# Altium footprint library CC1101RGPR.PcbLib: 3 footprints
Each footprint in its own frame and in the unit in brackets; x right, y up, seen from the top. Pads: shape width x height; smd on the part's side, far side on the other; paste and mask are expansions set on the pad; w line width, h text height; cw(c..) or ccw(c..) is an arc to the next point about the centre after c.
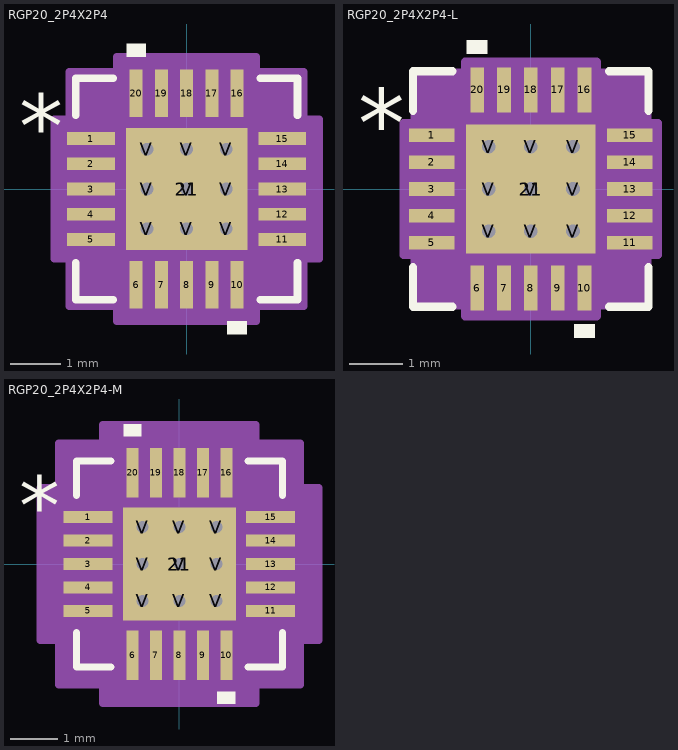
[diagram p0: the footprints below, top view; thin cyan lines are the x and y axes]

## RGP20_2P4X2P4 [mil]
pads (30):
  rect 37.31x10.03 smd paste+0 mask+0: 1(-74.66,39.37) 2(-74.66,19.68) 3(-74.66,0) 4(-74.66,-19.68) 5(-74.66,-39.37) 11(74.66,-39.37) 12(74.66,-19.68) 13(74.66,0) 14(74.66,19.68) 15(74.66,39.37)
  rect 10.03x37.31 smd paste+0 mask+0: 6(-39.37,-74.66) 7(-19.68,-74.66) 8(0,-74.66) 9(19.68,-74.66) 10(39.37,-74.66) 16(39.37,74.66) 17(19.68,74.66) 18(0,74.66) 19(-19.68,74.66) 20(-39.37,74.66)
  rect 95x95 smd paste-47 mask-47: 21(0,0)
  round 20 hole 10 paste-10 mask-10: V(-31,-31) V(-31,0) V(-31,31) V(0,-31) V(0,0) V(0,31) V(31,-31) V(31,0) V(31,31)
Top Overlay:
  region: 46.87,-103.31 31.87,-103.31 31.87,-113.31 46.87,-113.31
  region: -31.87,103.31 -46.87,103.31 -46.87,113.31 -31.87,113.31
  lines w6: -86.5,-57.49 -86.5,-86.5 -57.49,-86.5 ; -86.5,57.49 -86.5,86.5 -57.49,86.5 ; 57.49,-86.5 86.5,-86.5 86.5,-57.49 ; 57.49,86.5 86.5,86.5 86.5,57.49
  text "*" at -130.81,24.21 h50
  text ".Designator" at -137.5,-25 h50
Top Paste:
  drawing of 16 lines, arcs and shapes, not listed
Top Solder:
  region: -50,38.87 -50,50 50,50 50,38.87
  region: -50,7.87 -50,23.13 50,23.13 50,7.87
  region: -50,-23.13 -50,-7.87 50,-7.87 50,-23.13
  region: -50,-50 -50,-38.87 50,-38.87 50,-50
  region: -50,-50 -50,50 -38.87,50 -38.87,-50
  region: -7.87,-50 -7.87,50 -23.13,50 -23.13,-50
  region: 23.13,-50 23.13,50 7.87,50 7.87,-50
  region: 38.87,-50 38.87,50 50,50 50,-50
Mechanical 13:
  lines w1: -81.5,31.5 -31.5,81.5 ; -81.5,-81.5 81.5,-81.5 ; -81.5,-81.5 -81.5,81.5 ; -81.5,-81.5 -81.5,-81.5 ; -81.5,-45.37 -81.5,-33.37 ; -81.5,-45.37 -81.5,-33.37 ; -81.5,-45.37 -81.5,-45.37 ; -81.5,-33.37 -81.5,-33.37 ; -81.5,-25.68 -81.5,-13.69 ; -81.5,-25.68 -81.5,-13.69 ; -81.5,-25.68 -81.5,-25.68 ; -81.5,-13.69 -81.5,-13.69 ; -81.5,-6 -81.5,6 ; -81.5,-6 -81.5,6 ; -81.5,-6 -81.5,-6 ; -81.5,6 -81.5,6 ; -81.5,13.69 -81.5,25.68 ; -81.5,13.69 -81.5,25.68 ; -81.5,13.69 -81.5,13.69 ; -81.5,25.68 -81.5,25.68 ; -81.5,33.37 -81.5,45.37 ; -81.5,33.37 -81.5,45.37 ; -81.5,33.37 -81.5,33.37 ; -81.5,45.37 -81.5,45.37 ; -81.5,81.5 81.5,81.5 ; -81.5,81.5 -81.5,81.5 ; -45.37,-81.5 -33.37,-81.5 ; -45.37,-81.5 -45.37,-81.5 ; -45.37,-81.5 -33.37,-81.5 ; -45.37,81.5 -33.37,81.5 ; -45.37,81.5 -33.37,81.5 ; -45.37,81.5 -45.37,81.5 ; -33.37,-81.5 -33.37,-81.5 ; -33.37,81.5 -33.37,81.5 ; -25.68,-81.5 -13.69,-81.5 ; -25.68,-81.5 -25.68,-81.5 ; -25.68,-81.5 -13.69,-81.5 ; -25.68,81.5 -13.69,81.5 ; -25.68,81.5 -13.69,81.5 ; -25.68,81.5 -25.68,81.5 ; -13.69,-81.5 -13.69,-81.5 ; -13.69,81.5 -13.69,81.5 ; -6,-81.5 6,-81.5 ; -6,-81.5 -6,-81.5 ; -6,-81.5 6,-81.5 ; -6,81.5 6,81.5 ; -6,81.5 6,81.5 ; -6,81.5 -6,81.5 ; 6,-81.5 6,-81.5 ; 6,81.5 6,81.5 ; 13.69,-81.5 25.68,-81.5 ; 13.69,-81.5 13.69,-81.5 ; 13.69,-81.5 25.68,-81.5 ; 13.69,81.5 25.68,81.5 ; 13.69,81.5 25.68,81.5 ; 13.69,81.5 13.69,81.5 ; 25.68,-81.5 25.68,-81.5 ; 25.68,81.5 25.68,81.5 ; 33.37,-81.5 45.37,-81.5 ; 33.37,-81.5 33.37,-81.5 ; 33.37,-81.5 45.37,-81.5 ; 33.37,81.5 45.37,81.5 ; 33.37,81.5 45.37,81.5 ; 33.37,81.5 33.37,81.5 ; 45.37,-81.5 45.37,-81.5 ; 45.37,81.5 45.37,81.5 ; 81.5,-81.5 81.5,-81.5 ; 81.5,-81.5 81.5,81.5 ; 81.5,-45.37 81.5,-33.37 ; 81.5,-45.37 81.5,-45.37 ; 81.5,-45.37 81.5,-33.37 ; 81.5,-33.37 81.5,-33.37 ; 81.5,-25.68 81.5,-13.69 ; 81.5,-25.68 81.5,-25.68 ; 81.5,-25.68 81.5,-13.69 ; 81.5,-13.69 81.5,-13.69 ; 81.5,-6 81.5,6 ; 81.5,-6 81.5,-6 ; 81.5,-6 81.5,6 ; 81.5,6 81.5,6 ; 81.5,13.69 81.5,25.68 ; 81.5,13.69 81.5,13.69 ; 81.5,13.69 81.5,25.68 ; 81.5,25.68 81.5,25.68 ; 81.5,33.37 81.5,45.37 ; 81.5,33.37 81.5,33.37 ; 81.5,33.37 81.5,45.37 ; 81.5,45.37 81.5,45.37 ; 81.5,81.5 81.5,81.5
  text ".Designator" at -137.5,-25 h50
  text "*" at -68.5,24.21 h50
Mechanical 15:
  region: -54.39,-91.5 -91.5,-91.5 -91.5,-54.39 -103.31,-54.39 -103.31,54.39 -91.5,54.39 -91.5,91.5 -54.39,91.5 -54.39,103.31 54.39,103.31 54.39,91.5 91.5,91.5 91.5,54.39 103.31,54.39 103.31,-54.39 91.5,-54.39 91.5,-91.5 54.39,-91.5 54.39,-103.31 -54.39,-103.31
  lines w6: -103.31,-54.39 -91.5,-54.39 -91.5,-91.5 -54.39,-91.5 -54.39,-103.31 54.39,-103.31 54.39,-91.5 91.5,-91.5 91.5,-54.39 103.31,-54.39 103.31,54.39 91.5,54.39 91.5,91.5 54.39,91.5 54.39,103.31 -54.39,103.31 -54.39,91.5 -91.5,91.5 -91.5,54.39 -103.31,54.39 -103.31,-54.39
3D body "RGP20_2P4X2P4.step": height 39.09, standoff 0, extent -81.5,-81.5 81.5,81.5

## RGP20_2P4X2P4-L [mil]
pads (30):
  rect 33.37x10.03 smd paste+0 mask+0: 1(-72.69,39.37) 2(-72.69,19.68) 3(-72.69,0) 4(-72.69,-19.68) 5(-72.69,-39.37) 11(72.69,-39.37) 12(72.69,-19.68) 13(72.69,0) 14(72.69,19.68) 15(72.69,39.37)
  rect 10.03x33.37 smd paste+0 mask+0: 6(-39.37,-72.69) 7(-19.68,-72.69) 8(0,-72.69) 9(19.68,-72.69) 10(39.37,-72.69) 16(39.37,72.69) 17(19.68,72.69) 18(0,72.69) 19(-19.68,72.69) 20(-39.37,72.69)
  rect 95x95 smd paste-47 mask-47: 21(0,0)
  round 20 hole 10 paste-10 mask-10: V(-31,-31) V(-31,0) V(-31,31) V(0,-31) V(0,0) V(0,31) V(31,-31) V(31,0) V(31,31)
Top Overlay:
  region: 46.87,-99.37 31.87,-99.37 31.87,-109.37 46.87,-109.37
  region: -31.87,99.37 -46.87,99.37 -46.87,109.37 -31.87,109.37
  lines w6: -86.5,-57.49 -86.5,-86.5 -57.49,-86.5 ; -86.5,57.49 -86.5,86.5 -57.49,86.5 ; 57.49,-86.5 86.5,-86.5 86.5,-57.49 ; 57.49,86.5 86.5,86.5 86.5,57.49
  text "*" at -126.87,24.21 h50
  text ".Designator" at -137.5,-25 h50
Top Paste:
  drawing of 16 lines, arcs and shapes, not listed
Top Solder:
  region: -50,38.87 -50,50 50,50 50,38.87
  region: -50,7.87 -50,23.13 50,23.13 50,7.87
  region: -50,-23.13 -50,-7.87 50,-7.87 50,-23.13
  region: -50,-50 -50,-38.87 50,-38.87 50,-50
  region: -50,-50 -50,50 -38.87,50 -38.87,-50
  region: -7.87,-50 -7.87,50 -23.13,50 -23.13,-50
  region: 23.13,-50 23.13,50 7.87,50 7.87,-50
  region: 38.87,-50 38.87,50 50,50 50,-50
Mechanical 13:
  lines w1: -81.5,31.5 -31.5,81.5 ; -81.5,-81.5 81.5,-81.5 ; -81.5,-81.5 -81.5,81.5 ; -81.5,-81.5 -81.5,-81.5 ; -81.5,-45.37 -81.5,-33.37 ; -81.5,-45.37 -81.5,-33.37 ; -81.5,-45.37 -81.5,-45.37 ; -81.5,-33.37 -81.5,-33.37 ; -81.5,-25.68 -81.5,-13.69 ; -81.5,-25.68 -81.5,-13.69 ; -81.5,-25.68 -81.5,-25.68 ; -81.5,-13.69 -81.5,-13.69 ; -81.5,-6 -81.5,6 ; -81.5,-6 -81.5,6 ; -81.5,-6 -81.5,-6 ; -81.5,6 -81.5,6 ; -81.5,13.69 -81.5,25.68 ; -81.5,13.69 -81.5,25.68 ; -81.5,13.69 -81.5,13.69 ; -81.5,25.68 -81.5,25.68 ; -81.5,33.37 -81.5,45.37 ; -81.5,33.37 -81.5,45.37 ; -81.5,33.37 -81.5,33.37 ; -81.5,45.37 -81.5,45.37 ; -81.5,81.5 81.5,81.5 ; -81.5,81.5 -81.5,81.5 ; -45.37,-81.5 -33.37,-81.5 ; -45.37,-81.5 -45.37,-81.5 ; -45.37,-81.5 -33.37,-81.5 ; -45.37,81.5 -33.37,81.5 ; -45.37,81.5 -33.37,81.5 ; -45.37,81.5 -45.37,81.5 ; -33.37,-81.5 -33.37,-81.5 ; -33.37,81.5 -33.37,81.5 ; -25.68,-81.5 -13.69,-81.5 ; -25.68,-81.5 -25.68,-81.5 ; -25.68,-81.5 -13.69,-81.5 ; -25.68,81.5 -13.69,81.5 ; -25.68,81.5 -13.69,81.5 ; -25.68,81.5 -25.68,81.5 ; -13.69,-81.5 -13.69,-81.5 ; -13.69,81.5 -13.69,81.5 ; -6,-81.5 6,-81.5 ; -6,-81.5 -6,-81.5 ; -6,-81.5 6,-81.5 ; -6,81.5 6,81.5 ; -6,81.5 6,81.5 ; -6,81.5 -6,81.5 ; 6,-81.5 6,-81.5 ; 6,81.5 6,81.5 ; 13.69,-81.5 25.68,-81.5 ; 13.69,-81.5 13.69,-81.5 ; 13.69,-81.5 25.68,-81.5 ; 13.69,81.5 25.68,81.5 ; 13.69,81.5 25.68,81.5 ; 13.69,81.5 13.69,81.5 ; 25.68,-81.5 25.68,-81.5 ; 25.68,81.5 25.68,81.5 ; 33.37,-81.5 45.37,-81.5 ; 33.37,-81.5 33.37,-81.5 ; 33.37,-81.5 45.37,-81.5 ; 33.37,81.5 45.37,81.5 ; 33.37,81.5 45.37,81.5 ; 33.37,81.5 33.37,81.5 ; 45.37,-81.5 45.37,-81.5 ; 45.37,81.5 45.37,81.5 ; 81.5,-81.5 81.5,-81.5 ; 81.5,-81.5 81.5,81.5 ; 81.5,-45.37 81.5,-33.37 ; 81.5,-45.37 81.5,-45.37 ; 81.5,-45.37 81.5,-33.37 ; 81.5,-33.37 81.5,-33.37 ; 81.5,-25.68 81.5,-13.69 ; 81.5,-25.68 81.5,-25.68 ; 81.5,-25.68 81.5,-13.69 ; 81.5,-13.69 81.5,-13.69 ; 81.5,-6 81.5,6 ; 81.5,-6 81.5,-6 ; 81.5,-6 81.5,6 ; 81.5,6 81.5,6 ; 81.5,13.69 81.5,25.68 ; 81.5,13.69 81.5,13.69 ; 81.5,13.69 81.5,25.68 ; 81.5,25.68 81.5,25.68 ; 81.5,33.37 81.5,45.37 ; 81.5,33.37 81.5,33.37 ; 81.5,33.37 81.5,45.37 ; 81.5,45.37 81.5,45.37 ; 81.5,81.5 81.5,81.5
  text ".Designator" at -137.5,-25 h50
  text "*" at -68.5,24.21 h50
Mechanical 15:
  region: -48.39,-85.5 -85.5,-85.5 -85.5,-48.39 -93.37,-48.39 -93.37,48.39 -85.5,48.39 -85.5,85.5 -48.39,85.5 -48.39,93.37 48.39,93.37 48.39,85.5 85.5,85.5 85.5,48.39 93.37,48.39 93.37,-48.39 85.5,-48.39 85.5,-85.5 48.39,-85.5 48.39,-93.37 -48.39,-93.37
  lines w6: -93.37,-48.39 -85.5,-48.39 -85.5,-85.5 -48.39,-85.5 -48.39,-93.37 48.39,-93.37 48.39,-85.5 85.5,-85.5 85.5,-48.39 93.37,-48.39 93.37,48.39 85.5,48.39 85.5,85.5 48.39,85.5 48.39,93.37 -48.39,93.37 -48.39,85.5 -85.5,85.5 -85.5,48.39 -93.37,48.39 -93.37,-48.39
3D body "RGP20_2P4X2P4.step": height 39.09, standoff 0, extent -81.5,-81.5 81.5,81.5

## RGP20_2P4X2P4-M [mil]
pads (30):
  rect 41.25x10.03 smd paste+0 mask+0: 1(-76.62,39.37) 2(-76.62,19.68) 3(-76.62,0) 4(-76.62,-19.68) 5(-76.62,-39.37) 11(76.62,-39.37) 12(76.62,-19.68) 13(76.62,0) 14(76.62,19.68) 15(76.62,39.37)
  rect 10.03x41.25 smd paste+0 mask+0: 6(-39.37,-76.62) 7(-19.68,-76.62) 8(0,-76.62) 9(19.68,-76.62) 10(39.37,-76.62) 16(39.37,76.62) 17(19.68,76.62) 18(0,76.62) 19(-19.68,76.62) 20(-39.37,76.62)
  rect 95x95 smd paste-47 mask-47: 21(0,0)
  round 20 hole 10 paste-10 mask-10: V(-31,-31) V(-31,0) V(-31,31) V(0,-31) V(0,0) V(0,31) V(31,-31) V(31,0) V(31,31)
Top Overlay:
  region: 46.87,-107.25 31.87,-107.25 31.87,-117.25 46.87,-117.25
  region: -31.87,107.25 -46.87,107.25 -46.87,117.25 -31.87,117.25
  lines w6: -86.5,-57.49 -86.5,-86.5 -57.49,-86.5 ; -86.5,57.49 -86.5,86.5 -57.49,86.5 ; 57.49,-86.5 86.5,-86.5 86.5,-57.49 ; 57.49,86.5 86.5,86.5 86.5,57.49
  text "*" at -134.75,24.21 h50
  text ".Designator" at -137.5,-25 h50
Top Paste:
  drawing of 16 lines, arcs and shapes, not listed
Top Solder:
  region: -50,38.87 -50,50 50,50 50,38.87
  region: -50,7.87 -50,23.13 50,23.13 50,7.87
  region: -50,-23.13 -50,-7.87 50,-7.87 50,-23.13
  region: -50,-50 -50,-38.87 50,-38.87 50,-50
  region: -50,-50 -50,50 -38.87,50 -38.87,-50
  region: -7.87,-50 -7.87,50 -23.13,50 -23.13,-50
  region: 23.13,-50 23.13,50 7.87,50 7.87,-50
  region: 38.87,-50 38.87,50 50,50 50,-50
Mechanical 13:
  lines w1: -81.5,31.5 -31.5,81.5 ; -81.5,-81.5 81.5,-81.5 ; -81.5,-81.5 -81.5,81.5 ; -81.5,-81.5 -81.5,-81.5 ; -81.5,-45.37 -81.5,-33.37 ; -81.5,-45.37 -81.5,-33.37 ; -81.5,-45.37 -81.5,-45.37 ; -81.5,-33.37 -81.5,-33.37 ; -81.5,-25.68 -81.5,-13.69 ; -81.5,-25.68 -81.5,-13.69 ; -81.5,-25.68 -81.5,-25.68 ; -81.5,-13.69 -81.5,-13.69 ; -81.5,-6 -81.5,6 ; -81.5,-6 -81.5,6 ; -81.5,-6 -81.5,-6 ; -81.5,6 -81.5,6 ; -81.5,13.69 -81.5,25.68 ; -81.5,13.69 -81.5,25.68 ; -81.5,13.69 -81.5,13.69 ; -81.5,25.68 -81.5,25.68 ; -81.5,33.37 -81.5,45.37 ; -81.5,33.37 -81.5,45.37 ; -81.5,33.37 -81.5,33.37 ; -81.5,45.37 -81.5,45.37 ; -81.5,81.5 81.5,81.5 ; -81.5,81.5 -81.5,81.5 ; -45.37,-81.5 -33.37,-81.5 ; -45.37,-81.5 -45.37,-81.5 ; -45.37,-81.5 -33.37,-81.5 ; -45.37,81.5 -33.37,81.5 ; -45.37,81.5 -33.37,81.5 ; -45.37,81.5 -45.37,81.5 ; -33.37,-81.5 -33.37,-81.5 ; -33.37,81.5 -33.37,81.5 ; -25.68,-81.5 -13.69,-81.5 ; -25.68,-81.5 -25.68,-81.5 ; -25.68,-81.5 -13.69,-81.5 ; -25.68,81.5 -13.69,81.5 ; -25.68,81.5 -13.69,81.5 ; -25.68,81.5 -25.68,81.5 ; -13.69,-81.5 -13.69,-81.5 ; -13.69,81.5 -13.69,81.5 ; -6,-81.5 6,-81.5 ; -6,-81.5 -6,-81.5 ; -6,-81.5 6,-81.5 ; -6,81.5 6,81.5 ; -6,81.5 6,81.5 ; -6,81.5 -6,81.5 ; 6,-81.5 6,-81.5 ; 6,81.5 6,81.5 ; 13.69,-81.5 25.68,-81.5 ; 13.69,-81.5 13.69,-81.5 ; 13.69,-81.5 25.68,-81.5 ; 13.69,81.5 25.68,81.5 ; 13.69,81.5 25.68,81.5 ; 13.69,81.5 13.69,81.5 ; 25.68,-81.5 25.68,-81.5 ; 25.68,81.5 25.68,81.5 ; 33.37,-81.5 45.37,-81.5 ; 33.37,-81.5 33.37,-81.5 ; 33.37,-81.5 45.37,-81.5 ; 33.37,81.5 45.37,81.5 ; 33.37,81.5 45.37,81.5 ; 33.37,81.5 33.37,81.5 ; 45.37,-81.5 45.37,-81.5 ; 45.37,81.5 45.37,81.5 ; 81.5,-81.5 81.5,-81.5 ; 81.5,-81.5 81.5,81.5 ; 81.5,-45.37 81.5,-33.37 ; 81.5,-45.37 81.5,-45.37 ; 81.5,-45.37 81.5,-33.37 ; 81.5,-33.37 81.5,-33.37 ; 81.5,-25.68 81.5,-13.69 ; 81.5,-25.68 81.5,-25.68 ; 81.5,-25.68 81.5,-13.69 ; 81.5,-13.69 81.5,-13.69 ; 81.5,-6 81.5,6 ; 81.5,-6 81.5,-6 ; 81.5,-6 81.5,6 ; 81.5,6 81.5,6 ; 81.5,13.69 81.5,25.68 ; 81.5,13.69 81.5,13.69 ; 81.5,13.69 81.5,25.68 ; 81.5,25.68 81.5,25.68 ; 81.5,33.37 81.5,45.37 ; 81.5,33.37 81.5,33.37 ; 81.5,33.37 81.5,45.37 ; 81.5,45.37 81.5,45.37 ; 81.5,81.5 81.5,81.5
  text ".Designator" at -137.5,-25 h50
  text "*" at -68.5,24.21 h50
Mechanical 15:
  region: -64.39,-101.5 -101.5,-101.5 -101.5,-64.39 -117.25,-64.39 -117.25,64.39 -101.5,64.39 -101.5,101.5 -64.39,101.5 -64.39,117.25 64.39,117.25 64.39,101.5 101.5,101.5 101.5,64.39 117.25,64.39 117.25,-64.39 101.5,-64.39 101.5,-101.5 64.39,-101.5 64.39,-117.25 -64.39,-117.25
  lines w6: -117.25,-64.39 -101.5,-64.39 -101.5,-101.5 -64.39,-101.5 -64.39,-117.25 64.39,-117.25 64.39,-101.5 101.5,-101.5 101.5,-64.39 117.25,-64.39 117.25,64.39 101.5,64.39 101.5,101.5 64.39,101.5 64.39,117.25 -64.39,117.25 -64.39,101.5 -101.5,101.5 -101.5,64.39 -117.25,64.39 -117.25,-64.39
3D body "RGP20_2P4X2P4.step": height 39.09, standoff 0, extent -81.5,-81.5 81.5,81.5